# EAGLE library part SN74AVC4T774PW (library CC11x)
4-BIT DUAL-SUPPLY BUS TRANSCEIVER
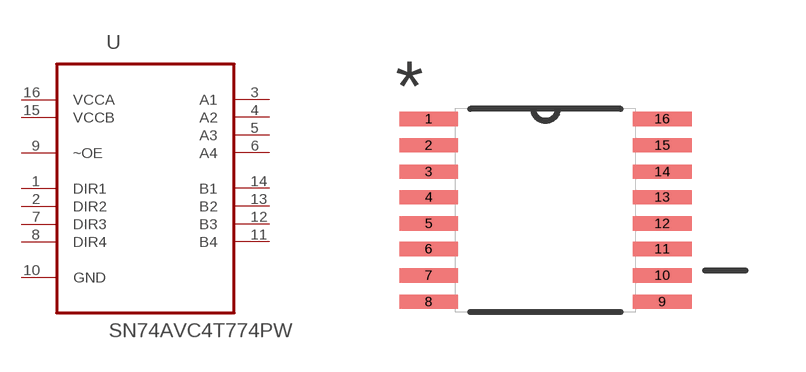
[diagram p10: symbol with the pads of SOP65P640X120-16N; footprint SOP65P640X120-16N]

Designator prefix U

## SN74AVC4T774PW (MPN: SN74AVC4T774PW; OC_FARNELL: 1630205; OC_NEWARK: 85M0107; PACKAGE: TSSOP-16; SUPPLIER: Texas Instruments)  [SOP65P640X120-16N]
1  DIR1  in
2  DIR2  in
3  A1
4  A2
5  A3
6  A4
7  DIR3  in
8  DIR4  in
9  ~OE  in
10  GND  pas
11  B4
12  B3
13  B2
14  B1
15  VCCB  pwr
16  VCCA  pwr

## Footprint SOP65P640X120-16N (pad centres in mm)
smd 1.473 x 0.356: 1 -2.921,2.286; 2 -2.921,1.626; 3 -2.921,0.965; 4 -2.921,0.33; 5 -2.921,-0.33; 6 -2.921,-0.965; 7 -2.921,-1.626; 8 -2.921,-2.286; 9 2.921,-2.286; 10 2.921,-1.626; 11 2.921,-0.965; 12 2.921,-0.33; 13 2.921,0.33; 14 2.921,0.965; 15 2.921,1.626; 16 2.921,2.286